# EAGLE library part IR2104 (library ir-2104)
Half Bridge mosfet - IGBT driver
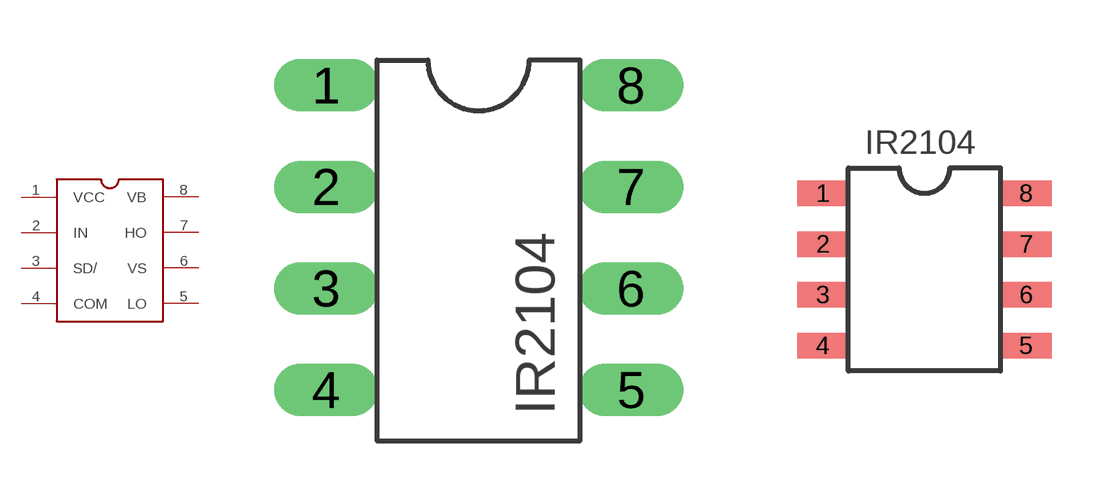
[diagram p0: symbol with the pads of PDIP8; footprints PDIP8, SOIC8]

Designator prefix -

## IR2104  [PDIP8]
1  VCC  pwr
2  IN
3  SD/
4  COM
5  LO
6  VS  pwr
7  HO
8  VB  pwr

## IR2104S  [SOIC8]
Pads as for PDIP8

## Footprint PDIP8 (pad centres in mm)
drill 0.8 long: 1 -1.905,8.89; 2 -1.905,6.35; 3 -1.905,3.81; 4 -1.905,1.27; 5 5.715,1.27; 6 5.715,3.81; 7 5.715,6.35; 8 5.715,8.89

## Footprint SOIC8 (pad centres in mm)
Half Bridge MosfetIGBT driver (SOIC)
smd 1.27 x 0.635: 1 0,3.81; 2 0,2.54; 3 0,1.27; 4 0,0; 5 5.08,0; 6 5.08,1.27; 7 5.08,2.54; 8 5.08,3.81